# Altium schematic symbol library Res Thermal.Schlib: 1 symbol
Pins are listed as number, name and electrical type; pins without a type are passive.

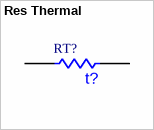
[diagram p0: symbol Res Thermal]

## Res Thermal
designator RT?
Thermistor
pins: 1, 2
text: t?